# Altium footprint library PcbLib1.PcbLib: 26 footprints (part 2 of 2)
Each footprint in its own frame and in the unit in brackets; x right, y up, seen from the top. Pads: shape width x height; smd on the part's side, far side on the other; paste and mask are expansions set on the pad; w line width, h text height; cw(c..) or ccw(c..) is an arc to the next point about the centre after c.
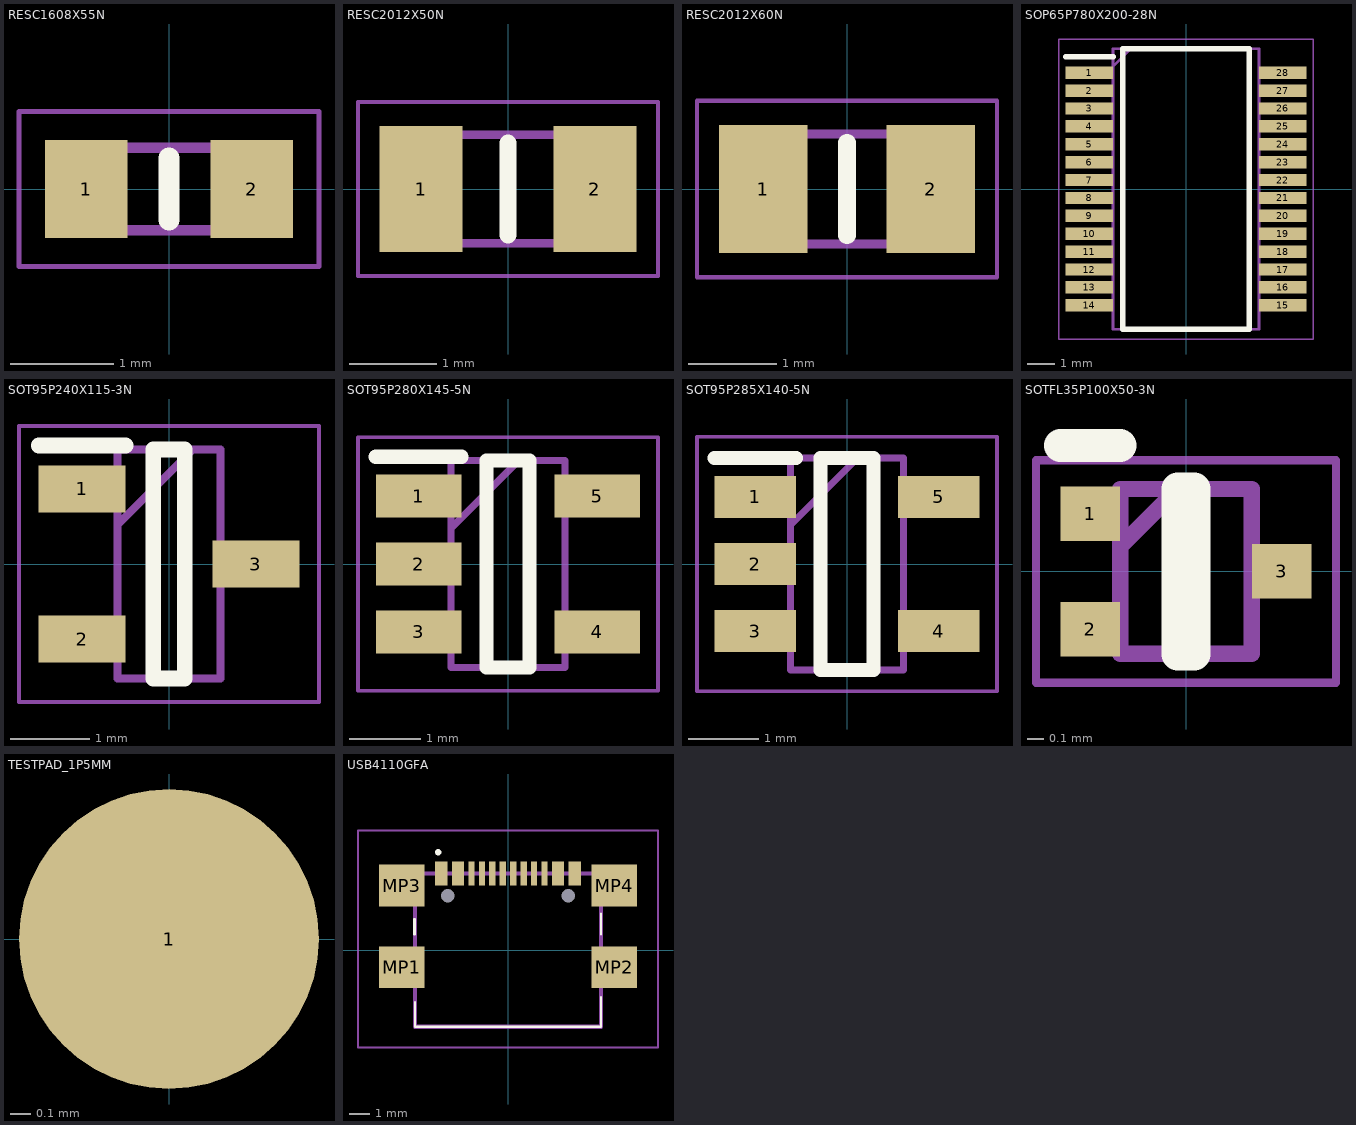
[diagram p1: the footprints below, top view; thin cyan lines are the x and y axes]

## RESC1608X55N [mm]
pads (2):
  rect 0.8x0.95 smd: 1(-0.8,0) 2(0.8,0)
Top Overlay:
  lines w0.2: 0,-0.3 0,0.3
Mechanical 13:
  lines w0.1: -0.8,-0.4 0.8,-0.4 0.8,0.4 -0.8,0.4 -0.8,-0.4
Mechanical 15:
  lines w0.05: -1.45,-0.75 1.45,-0.75 1.45,0.75 -1.45,0.75 -1.45,-0.75
3D body "RC0603FR-072K61L.stp": height 0.46, standoff 0, extent -0.8,-0.4 0.8,0.4

## RESC2012X50N [mm]
pads (2):
  rect 0.95x1.45 smd: 1(-1,0) 2(1,0)
Top Overlay:
  lines w0.2: 0,-0.525 0,0.525
Mechanical 13:
  lines w0.1: -1.025,-0.625 -1.025,0.625 1.025,0.625 1.025,-0.625 -1.025,-0.625
Mechanical 15:
  lines w0.05: -1.725,-1 -1.725,1 1.725,1 1.725,-1 -1.725,-1
3D body "CRCW080513K7FKEA.stp": height 0.45, standoff 0, extent -1,-0.62 1,0.63

## RESC2012X60N [mm]
pads (2):
  rect 1x1.45 smd: 1(-0.95,0) 2(0.95,0)
Top Overlay:
  lines w0.2: 0,-0.525 0,0.525
Mechanical 13:
  lines w0.1: -1,-0.625 -1,0.625 1,0.625 1,-0.625 -1,-0.625
Mechanical 15:
  lines w0.05: -1.7,-1 -1.7,1 1.7,1 1.7,-1 -1.7,-1
3D body "CRCW0805100KFKEAHP.stp": height 0.6, standoff 0, extent -1,-0.625 1,0.625

## SOP65P780X200-28N [mm]
pads (28):
  rect 1.725x0.45 smd: 1(-3.512,4.225) 2(-3.512,3.575) 3(-3.512,2.925) 4(-3.512,2.275) 5(-3.512,1.625) 6(-3.512,0.975) 7(-3.512,0.325) 8(-3.512,-0.325) 9(-3.512,-0.975) 10(-3.512,-1.625) 11(-3.512,-2.275) 12(-3.512,-2.925) 13(-3.512,-3.575) 14(-3.512,-4.225) 15(3.512,-4.225) 16(3.512,-3.575) 17(3.512,-2.925) 18(3.512,-2.275) 19(3.512,-1.625) 20(3.512,-0.975) 21(3.512,-0.325) 22(3.512,0.325) 23(3.512,0.975) 24(3.512,1.625) 25(3.512,2.275) 26(3.512,2.925) 27(3.512,3.575) 28(3.512,4.225)
Top Overlay:
  lines w0.2: -4.375,4.8 -2.65,4.8 ; -2.3,-5.1 2.3,-5.1 2.3,5.1 -2.3,5.1 -2.3,-5.1
Mechanical 13:
  lines w0.1: -2.65,4.45 -2,5.1 ; -2.65,-5.1 2.65,-5.1 2.65,5.1 -2.65,5.1 -2.65,-5.1
Mechanical 15:
  lines w0.05: -4.625,-5.45 4.625,-5.45 4.625,5.45 -4.625,5.45 -4.625,-5.45
3D body "FT232RNL-TUBE.stp": height 2, standoff 0, extent -3.9,-5.1 3.9,5.1

## SOT95P240X115-3N [mm]
pads (3):
  rect 1.1x0.6 smd: 1(-1.1,0.95) 2(-1.1,-0.95) 3(1.1,0)
Top Overlay:
  lines w0.2: -1.65,1.5 -0.55,1.5 ; -0.2,-1.45 0.2,-1.45 0.2,1.45 -0.2,1.45 -0.2,-1.45
Mechanical 13:
  lines w0.1: -0.65,0.5 0.3,1.45 ; -0.65,-1.45 0.65,-1.45 0.65,1.45 -0.65,1.45 -0.65,-1.45
Mechanical 15:
  lines w0.05: -1.9,-1.75 1.9,-1.75 1.9,1.75 -1.9,1.75 -1.9,-1.75
3D body "SS8050-G.stp": height 1.15, standoff 0, extent -1.2,-1.45 1.2,1.45

## SOT95P280X145-5N [mm]
pads (5):
  rect 1.2x0.6 smd: 1(-1.25,0.95) 2(-1.25,0) 3(-1.25,-0.95) 4(1.25,-0.95) 5(1.25,0.95)
Top Overlay:
  lines w0.2: -1.85,1.5 -0.65,1.5 ; -0.3,-1.45 -0.3,1.45 0.3,1.45 0.3,-1.45 -0.3,-1.45
Mechanical 13:
  lines w0.1: -0.8,0.5 0.15,1.45 ; -0.8,-1.45 -0.8,1.45 0.8,1.45 0.8,-1.45 -0.8,-1.45
Mechanical 15:
  lines w0.05: -2.1,-1.775 -2.1,1.775 2.1,1.775 2.1,-1.775 -2.1,-1.775
3D body "OPA172IDBVR.stp": height 1.45, standoff 0, extent -1.4,-1.45 1.4,1.45

## SOT95P285X140-5N [mm]
pads (5):
  rect 1.15x0.6 smd: 1(-1.3,0.95) 2(-1.3,0) 3(-1.3,-0.95) 4(1.3,-0.95) 5(1.3,0.95)
Top Overlay:
  lines w0.2: -1.875,1.5 -0.725,1.5 ; -0.375,-1.5 -0.375,1.5 0.375,1.5 0.375,-1.5 -0.375,-1.5
Mechanical 13:
  lines w0.1: -0.8,0.55 0.15,1.5 ; -0.8,-1.5 -0.8,1.5 0.8,1.5 0.8,-1.5 -0.8,-1.5
Mechanical 15:
  lines w0.05: -2.125,-1.8 -2.125,1.8 2.125,1.8 2.125,-1.8 -2.125,-1.8
3D body "AP2112K-3.3TRG1.stp": height 1.4, standoff 0, extent -1.425,-1.5 1.425,1.5

## SOTFL35P100X50-3N [mm]
pads (3):
  rect 0.36x0.33 smd: 1(-0.58,0.35) 2(-0.58,-0.35) 3(0.58,0)
Top Overlay:
  lines w0.2: -0.76,0.765 -0.4,0.765 ; -0.05,-0.5 -0.05,0.5 0.05,0.5 0.05,-0.5 -0.05,-0.5
Mechanical 13:
  lines w0.1: -0.4,0.15 -0.05,0.5 ; -0.4,-0.5 -0.4,0.5 0.4,0.5 0.4,-0.5 -0.4,-0.5
Mechanical 15:
  lines w0.05: -0.91,-0.675 -0.91,0.675 0.91,0.675 0.91,-0.675 -0.91,-0.675
3D body "TPD2EUSB30DRTR.stp": height 0.5, standoff 0, extent -0.5,-0.5 0.5,0.5

## TESTPAD_1P5MM [mm]
pads (1):
  round 1.5 smd paste-2539.97 mask+0.1: 1(0,0)

## USB4110GFA [mm]
pads (22):
  rect 0.3x1.15 smd: A1(-3.35,3.678) A4(-2.55,3.678) A5(-1.25,3.678) A6(-0.25,3.678) A7(0.25,3.678) A8(1.25,3.678) A9(2.55,3.678) A12(3.35,3.678) B1(3.05,3.678) B4(2.25,3.678) B5(1.75,3.678) B6(0.75,3.678) B7(-0.75,3.678) B8(-1.75,3.678) B9(-2.25,3.678) B12(-3.05,3.678)
  round 0.325 hole 0.65 unplated: MH1(-2.89,2.603) MH2(2.89,2.603)
  rect 2.18x2 smd: MP1(-5.11,-0.827) MP2(5.11,-0.827) MP3(-5.11,3.103) MP4(5.11,3.103)
Top Overlay:
  lines w0.1: -4.47,-3.677 4.47,-3.677 ; -4.47,-3.677 4.47,-3.677 ; -4.47,-3.677 -4.47,-2.5 -4.47,-3.677 ; 4.47,-3.677 4.47,-2.25 4.47,-3.677 ; -4.5,0.75 -4.47,0.75 -4.47,1.5 -4.5,1.5 -4.5,0.75 ; 4.47,0.75 4.47,1.75 4.47,0.75
  lines w0.2: -3.4,4.7 ccw(c-3.35,4.7) -3.3,4.7 ; -3.4,4.7 cw(c-3.35,4.7) -3.3,4.7 ; -3.4,4.7 ccw(c-3.35,4.7) -3.3,4.7
Mechanical 13:
  lines w0.2: -4.47,-3.677 -4.47,3.673 4.47,3.673 4.47,-3.677 -4.47,-3.677
Mechanical 15:
  lines w0.1: -7.2,-4.677 -7.2,5.75 7.2,5.75 7.2,-4.677 -7.2,-4.677
3D body "USB4110-GF-A.stp": height 3.26, standoff -0.63, extent -5.65,-3.68 5.65,4.02